# Altium footprint library Hirose DM2D-SF.PcbLib: 1 footprints
Each footprint in its own frame and in the unit in brackets; x right, y up, seen from the top. Pads: shape width x height; smd on the part's side, far side on the other; paste and mask are expansions set on the pad; w line width, h text height; cw(c..) or ccw(c..) is an arc to the next point about the centre after c.
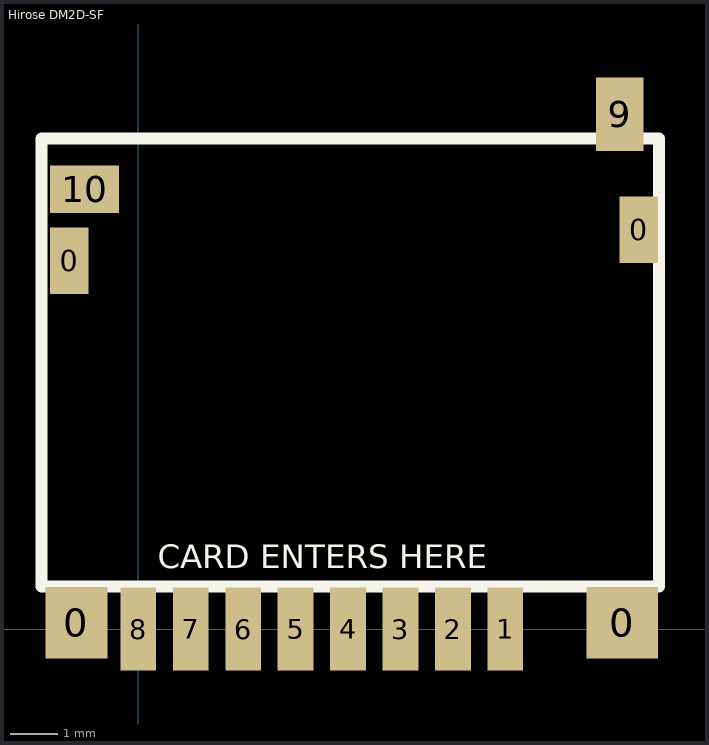
[diagram p0: the footprint, top view; thin cyan lines are the x and y axes]

## Hirose DM2D-SF [mm] "microSD slot, digikey PN HR1941CT-ND"
height 1.53
pads (14):
  rect 0.8x1.4 smd: 0(-1.45,7.725) 0(10.5,8.375)
  rect 1.3x1.5 smd: 0(-1.3,0.127)
  rect 1.5x1.5 smd: 0(10.15,0.127)
  rect 0.75x1.75 smd: 1(7.7,0) 2(6.6,0) 3(5.5,0) 4(4.4,0) 5(3.3,0) 6(2.2,0) 7(1.1,0) 8(0,0)
  rect 1x1.55 smd: 9(10.1,10.8)
  rect 1.45x1 smd: 10(-1.125,9.225)
Top Overlay:
  lines w0.254: -2.032,0.889 -2.032,10.287 10.922,10.287 10.922,0.889 -2.032,0.889
  text "CARD ENTERS HERE" at 0.406,1.27 h0.5
3D body: height 1.53, standoff 0, extent -2.159,0.762 11.049,10.414